# Altium footprint library TLP2962.PcbLib: 3 footprints
Each footprint in its own frame and in the unit in brackets; x right, y up, seen from the top. Pads: shape width x height; smd on the part's side, far side on the other; paste and mask are expansions set on the pad; w line width, h text height; cw(c..) or ccw(c..) is an arc to the next point about the centre after c.
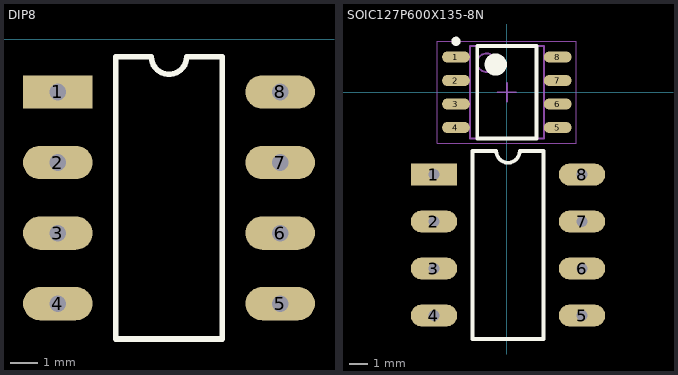
[diagram p0: the footprints below, top view; thin cyan lines are the x and y axes]

## DIP8 [mm]
pads (8):
  rect 2.5x1.2 hole 0.6: 1(2.75,-1.905)
  oval 2.5x1.2 hole 0.6: 2(2.75,-4.445) 3(2.75,-6.985) 4(2.75,-9.525) 5(10.75,-9.525) 6(10.75,-6.985) 7(10.75,-4.445) 8(10.75,-1.905)
Top Overlay:
  lines w0.2: 4.835,-10.795 4.835,-0.635 6.115,-0.635 ccw(c6.75,-0.635) 7.385,-0.635 8.665,-0.635 8.665,-10.795 4.835,-10.795

## SOIC127P600X135-8N [mm] "SOIC, 8-Leads, Body 4,90x3,90mm, Pitch 1,27mm, IPC Medium Density"
height 1.35
pads (16):
  rect 2.5x1.2 hole 0.6: 1(-3.937,-4.445)
  oval 1.5x0.6 smd: 1(-2.75,1.905) 2(-2.75,0.635) 3(-2.75,-0.635) 4(-2.75,-1.905) 5(2.75,-1.905) 6(2.75,-0.635) 7(2.75,0.635) 8(2.75,1.905)
  oval 2.5x1.2 hole 0.6: 2(-3.937,-6.985) 3(-3.937,-9.525) 4(-3.937,-12.065) 5(4.063,-12.065) 6(4.063,-9.525) 7(4.063,-6.985) 8(4.063,-4.445)
Top Overlay:
  circle w0.25: c-2.75,2.755 r0.125
  circle w0.6: c-0.6,1.5 r0.3
  lines w0.2: -1.852,-13.335 -1.852,-3.175 -0.572,-3.175 ccw(c0.063,-3.175) 0.698,-3.175 1.978,-3.175 1.978,-13.335 -1.852,-13.335 ; -1.6,-2.5 -1.6,2.5 1.6,2.5 1.6,-2.5 -1.6,-2.5
Mechanical 13:
  circle w0.1: c-1.1,1.6 r0.5
  lines w0.1: -2,-2.5 -2,2.5 2,2.5 2,-2.5 -2,-2.5
Mechanical 15:
  lines w0.05: -3.75,-2.75 -3.75,2.75 3.75,2.75 3.75,-2.75 -3.75,-2.75
  lines w0.1: -0.5,0 0.5,0 ; 0,-0.5 0,0.5
3D body: height 1.35, standoff 0.1, extent -2,-2.5 2,2.5

## TLP2962 [mm] "SMD-8"